# Altium footprint library 123.PcbLib: 55 footprints (part 1 of 4)
Each footprint in its own frame and in the unit in brackets; x right, y up, seen from the top. Pads: shape width x height; smd on the part's side, far side on the other; paste and mask are expansions set on the pad; w line width, h text height; cw(c..) or ccw(c..) is an arc to the next point about the centre after c.
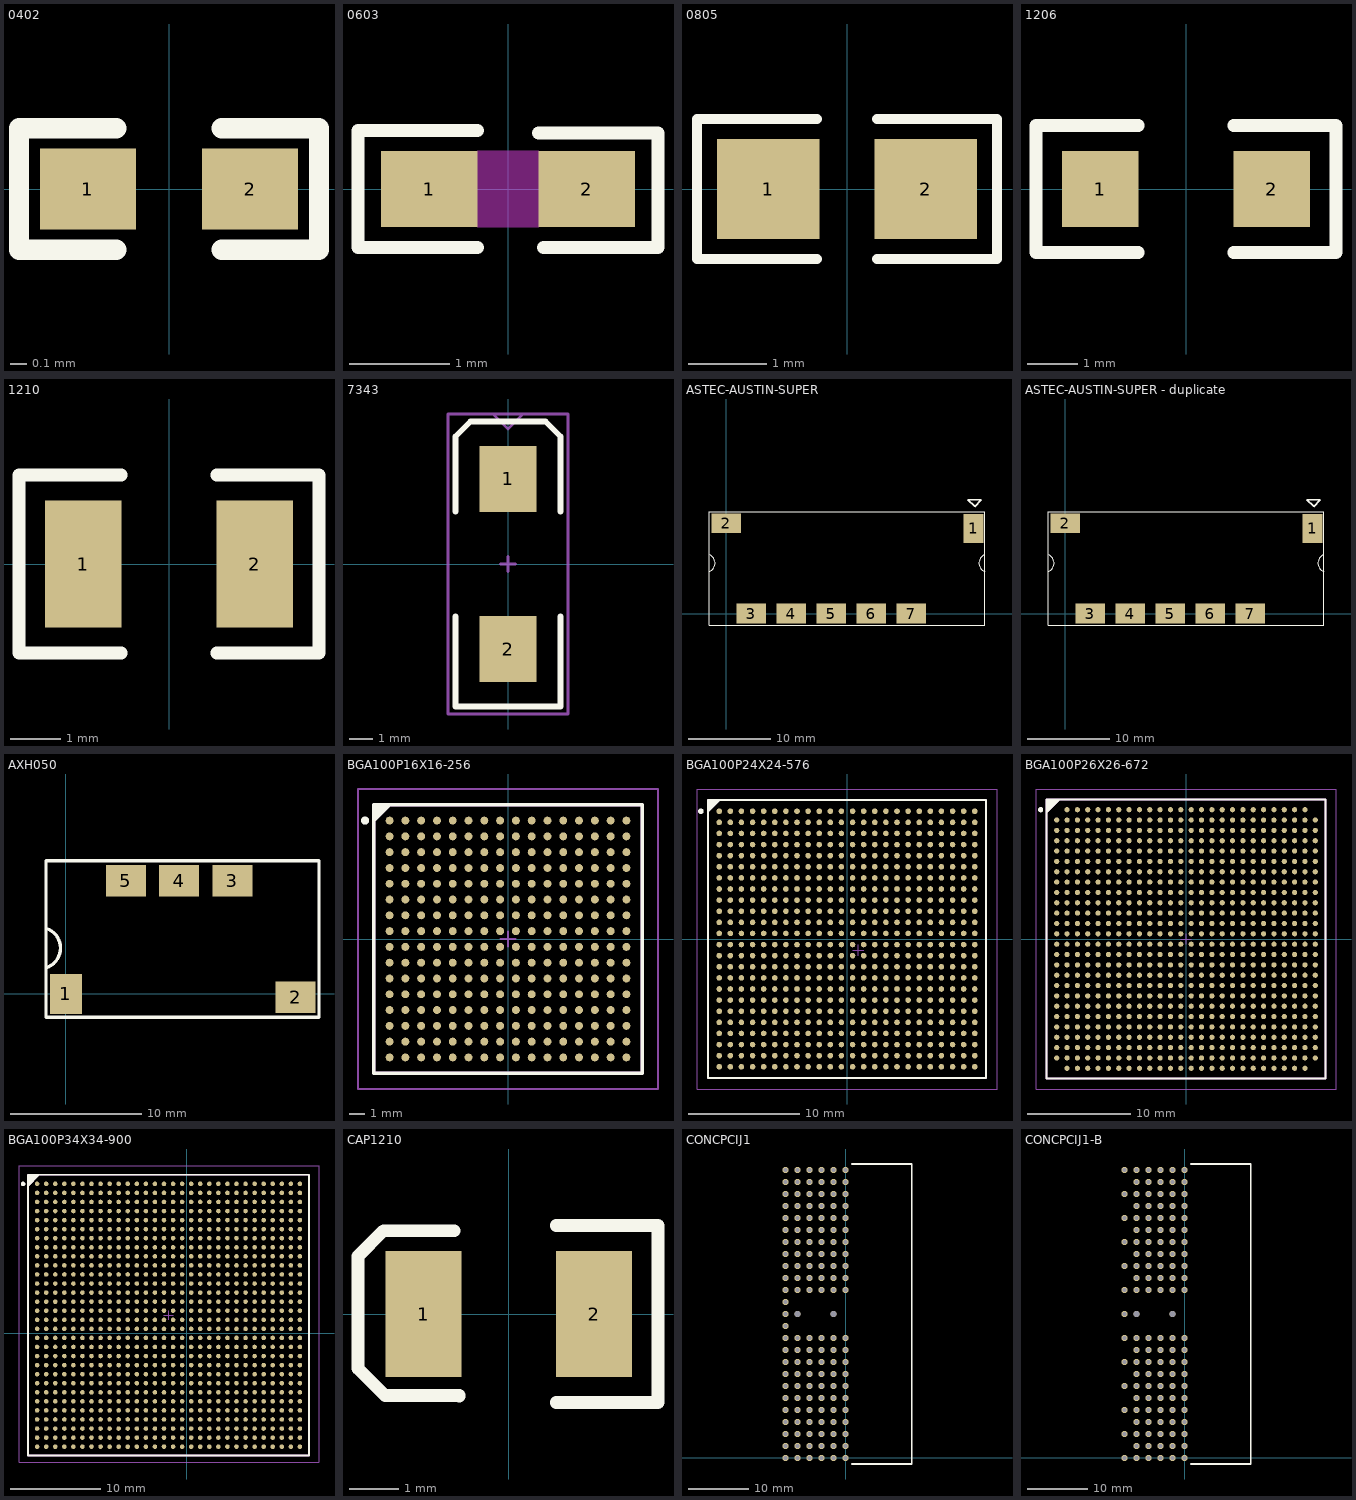
[diagram p0: the footprints below, top view; thin cyan lines are the x and y axes]

## 0402 [mil]
pads (2):
  rect 23.62x20 smd: 1(-20,0) 2(20,0)
Top Overlay:
  lines w5: -13,-15 -37,-15 -37,15 -13,15 ; 13,-15 37,-15 37,15 13,15

## 0603 [mil]
pads (2):
  rect 38x30 smd: 1(-31,0) 2(31,0)
Top Overlay:
  lines w5: -12,-23 -59,-23 -59,23 -12,23 ; 12,22 59,22 59,-23 14,-23
Bottom Overlay:
  lines w5: -5,-14 -5,13 5,13 5,-14 -5,-14
Keep-Out Layer:
  region: -12,15 -12,-15 12,-15 12,15

## 0805 [mm]
pads (2):
  rect 1.3x1.27 smd: 1(-1,0) 2(1,0)
Top Overlay:
  lines w0.127: -0.381,-0.889 -1.905,-0.889 -1.905,0.889 -0.381,0.889 ; 0.381,-0.889 1.905,-0.889 1.905,0.889 0.381,0.889

## 1206 [mil]
pads (2):
  rect 60x60 smd: 1(-67.5,0) 2(67.5,0)
Top Overlay:
  lines w10: -37.5,-50 -118,-50 -118,50 -37.5,50 ; 37.5,-50 118,-50 118,50 37.5,50

## 1210 [mil]
pads (2):
  rect 60x100 smd: 1(-67.5,0) 2(67.5,0)
Top Overlay:
  lines w10: -37.5,-70 -118,-70 -118,70 -37.5,70 ; 37.5,-70 118,-70 118,70 37.5,70

## 7343 [mil]
pads (2):
  rect 95x110 smd: 1(0,142) 2(0,-142)
Top Overlay:
  lines w10: -87.5,-87.5 -87.5,-237.5 87.5,-237.5 87.5,-87.5 ; -87.5,87.5 -87.5,212.5 -62.5,237.5 62.5,237.5 87.5,212.5 87.5,87.5
Mechanical 8:
  lines w5: -25,250 0,225 25,250 ; -12.5,0 12.5,0 ; 0,-12.5 0,12.5 ; -100,-250 -100,250 100,250 100,-250 -100,-250

## ASTEC-AUSTIN-SUPER [mil]
pads (7):
  rect 95x140 smd: 1(1177,405)
  rect 140x95 smd: 2(0,429.92) 3(120,0) 4(310,0) 5(500,0) 6(690,0) 7(880,0)
Top Overlay:
  lines w5: -80.02,280.01 cw(c-95.78,240) -79.95,200.02 ; 1229.95,200.02 cw(c1245.78,240) 1230.02,280.01 ; -80,-55 1230,-55 1230,485 -80,485 -80,-55
  lines w7: 1150,542 1182,510 1182.5,509.5 1215,542 1150,542

## ASTEC-AUSTIN-SUPER - duplicate [mil]
pads (7):
  rect 95x140 smd: 1(1177,405)
  rect 140x95 smd: 2(0,429.92) 3(120,0) 4(310,0) 5(500,0) 6(690,0) 7(880,0)
Top Overlay:
  lines w5: -80.02,280.01 cw(c-95.78,240) -79.95,200.02 ; 1229.95,200.02 cw(c1245.78,240) 1230.02,280.01 ; -80,-55 1230,-55 1230,485 -80,485 -80,-55
  lines w7: 1150,542 1182,510 1182.5,509.5 1215,542 1150,542

## AXH050 [mil]
pads (5):
  rect 95x120 smd: 1(0,0)
  rect 120x95 smd: 2(690,-10) 3(500,340) 4(340,340) 5(180,340)
Top Overlay:
  lines w10: -59.09,78.73 ccw(c-78.74,137.8) -58.99,196.83 ; -60,-70 760,-70 760,400 -60,400 -60,-70

## BGA100P16X16-256 [mm]
pads (256):
  round 0.5 smd: A1(-7.5,7.5) A2(-6.5,7.5) A3(-5.5,7.5) A4(-4.5,7.5) A5(-3.5,7.5) A6(-2.5,7.5) A7(-1.5,7.5) A8(-0.5,7.5) A9(0.5,7.5) A10(1.5,7.5) A11(2.5,7.5) A12(3.5,7.5) A13(4.5,7.5) A14(5.5,7.5) A15(6.5,7.5) A16(7.5,7.5) B1(-7.5,6.5) B2(-6.5,6.5) B3(-5.5,6.5) B4(-4.5,6.5) B5(-3.5,6.5) B6(-2.5,6.5) B7(-1.5,6.5) B8(-0.5,6.5) B9(0.5,6.5) B10(1.5,6.5) B11(2.5,6.5) B12(3.5,6.5) B13(4.5,6.5) B14(5.5,6.5) B15(6.5,6.5) B16(7.5,6.5) C1(-7.5,5.5) C2(-6.5,5.5) C3(-5.5,5.5) C4(-4.5,5.5) C5(-3.5,5.5) C6(-2.5,5.5) C7(-1.5,5.5) C8(-0.5,5.5) C9(0.5,5.5) C10(1.5,5.5) C11(2.5,5.5) C12(3.5,5.5) C13(4.5,5.5) C14(5.5,5.5) C15(6.5,5.5) C16(7.5,5.5) D1(-7.5,4.5) D2(-6.5,4.5) D3(-5.5,4.5) D4(-4.5,4.5) D5(-3.5,4.5) D6(-2.5,4.5) D7(-1.5,4.5) D8(-0.5,4.5) D9(0.5,4.5) D10(1.5,4.5) D11(2.5,4.5) D12(3.5,4.5) D13(4.5,4.5) D14(5.5,4.5) D15(6.5,4.5) D16(7.5,4.5) E1(-7.5,3.5) E2(-6.5,3.5) E3(-5.5,3.5) E4(-4.5,3.5) E5(-3.5,3.5) E6(-2.5,3.5) E7(-1.5,3.5) E8(-0.5,3.5) E9(0.5,3.5) E10(1.5,3.5) E11(2.5,3.5) E12(3.5,3.5) E13(4.5,3.5) E14(5.5,3.5) E15(6.5,3.5) E16(7.5,3.5) F1(-7.5,2.5) F2(-6.5,2.5) F3(-5.5,2.5) F4(-4.5,2.5) F5(-3.5,2.5) F6(-2.5,2.5) F7(-1.5,2.5) F8(-0.5,2.5) F9(0.5,2.5) F10(1.5,2.5) F11(2.5,2.5) F12(3.5,2.5) F13(4.5,2.5) F14(5.5,2.5) F15(6.5,2.5) F16(7.5,2.5) G1(-7.5,1.5) G2(-6.5,1.5) G3(-5.5,1.5) G4(-4.5,1.5) G5(-3.5,1.5) G6(-2.5,1.5) G7(-1.5,1.5) G8(-0.5,1.5) G9(0.5,1.5) G10(1.5,1.5) G11(2.5,1.5) G12(3.5,1.5) G13(4.5,1.5) G14(5.5,1.5) G15(6.5,1.5) G16(7.5,1.5) H1(-7.5,0.5) H2(-6.5,0.5) H3(-5.5,0.5) H4(-4.5,0.5) H5(-3.5,0.5) H6(-2.5,0.5) H7(-1.5,0.5) H8(-0.5,0.5) H9(0.5,0.5) H10(1.5,0.5) H11(2.5,0.5) H12(3.5,0.5) H13(4.5,0.5) H14(5.5,0.5) H15(6.5,0.5) H16(7.5,0.5) J1(-7.5,-0.5) J2(-6.5,-0.5) J3(-5.5,-0.5) J4(-4.5,-0.5) J5(-3.5,-0.5) J6(-2.5,-0.5) J7(-1.5,-0.5) J8(-0.5,-0.5) J9(0.5,-0.5) J10(1.5,-0.5) J11(2.5,-0.5) J12(3.5,-0.5) J13(4.5,-0.5) J14(5.5,-0.5) J15(6.5,-0.5) J16(7.5,-0.5) K1(-7.5,-1.5) K2(-6.5,-1.5) K3(-5.5,-1.5) K4(-4.5,-1.5) K5(-3.5,-1.5) K6(-2.5,-1.5) K7(-1.5,-1.5) K8(-0.5,-1.5) K9(0.5,-1.5) K10(1.5,-1.5) K11(2.5,-1.5) K12(3.5,-1.5) K13(4.5,-1.5) K14(5.5,-1.5) K15(6.5,-1.5) K16(7.5,-1.5) L1(-7.5,-2.5) L2(-6.5,-2.5) L3(-5.5,-2.5) L4(-4.5,-2.5) L5(-3.5,-2.5) L6(-2.5,-2.5) L7(-1.5,-2.5) L8(-0.5,-2.5) L9(0.5,-2.5) L10(1.5,-2.5) L11(2.5,-2.5) L12(3.5,-2.5) L13(4.5,-2.5) L14(5.5,-2.5) L15(6.5,-2.5) L16(7.5,-2.5) M1(-7.5,-3.5) M2(-6.5,-3.5) M3(-5.5,-3.5) M4(-4.5,-3.5) M5(-3.5,-3.5) M6(-2.5,-3.5) M7(-1.5,-3.5) M8(-0.5,-3.5) M9(0.5,-3.5) M10(1.5,-3.5) M11(2.5,-3.5) M12(3.5,-3.5) M13(4.5,-3.5) M14(5.5,-3.5) M15(6.5,-3.5) M16(7.5,-3.5) N1(-7.5,-4.5) N2(-6.5,-4.5) N3(-5.5,-4.5) N4(-4.5,-4.5) N5(-3.5,-4.5) N6(-2.5,-4.5) N7(-1.5,-4.5) N8(-0.5,-4.5) N9(0.5,-4.5) N10(1.5,-4.5) N11(2.5,-4.5) N12(3.5,-4.5) N13(4.5,-4.5) N14(5.5,-4.5) N15(6.5,-4.5) N16(7.5,-4.5) P1(-7.5,-5.5) P2(-6.5,-5.5) P3(-5.5,-5.5) P4(-4.5,-5.5) P5(-3.5,-5.5) P6(-2.5,-5.5) P7(-1.5,-5.5) P8(-0.5,-5.5) P9(0.5,-5.5) P10(1.5,-5.5) P11(2.5,-5.5) P12(3.5,-5.5) P13(4.5,-5.5) P14(5.5,-5.5) P15(6.5,-5.5) P16(7.5,-5.5) R1(-7.5,-6.5) R2(-6.5,-6.5) R3(-5.5,-6.5) R4(-4.5,-6.5) R5(-3.5,-6.5) R6(-2.5,-6.5) R7(-1.5,-6.5) R8(-0.5,-6.5) R9(0.5,-6.5) R10(1.5,-6.5) R11(2.5,-6.5) R12(3.5,-6.5) R13(4.5,-6.5) R14(5.5,-6.5) R15(6.5,-6.5) R16(7.5,-6.5) T1(-7.5,-7.5) T2(-6.5,-7.5) T3(-5.5,-7.5) T4(-4.5,-7.5) T5(-3.5,-7.5) T6(-2.5,-7.5) T7(-1.5,-7.5) T8(-0.5,-7.5) T9(0.5,-7.5) T10(1.5,-7.5) T11(2.5,-7.5) T12(3.5,-7.5) T13(4.5,-7.5) T14(5.5,-7.5) T15(6.5,-7.5) T16(7.5,-7.5)
Top Overlay:
  circle w0.25: c-9.05,7.5 r0.125
  lines w0.2: -8.5,7.5 -7.5,8.5 ; -8.5,7.7 -7.7,8.5 ; -8.5,7.9 -7.9,8.5 ; -8.5,8.1 -8.1,8.5 ; -8.5,8.3 -8.3,8.5 ; -8.5,-8.5 8.5,-8.5 8.5,8.5 -8.5,8.5 -8.5,-8.5
Mechanical 1:
  lines w0.2: -8.5,7.5 -7.5,8.5 ; -8.5,7.7 -7.7,8.5 ; -8.5,7.9 -7.9,8.5 ; -8.5,8.1 -8.1,8.5 ; -8.5,8.3 -8.3,8.5 ; -8.5,-8.5 -8.5,8.5 8.5,8.5 8.5,-8.5 -8.5,-8.5
  text "U137" at -1.616,-0.5 h1
Mechanical 8:
  lines w0.1: -0.5,0 0.5,0 ; 0,-0.5 0,0.5 ; -9.5,-9.5 -9.5,9.5 9.5,9.5 9.5,-9.5 -9.5,-9.5

## BGA100P24X24-576 [mm]
pads (576):
  round 0.5 smd: A1(-11.5,11.5) A2(-10.5,11.5) A3(-9.5,11.5) A4(-8.5,11.5) A5(-7.5,11.5) A6(-6.5,11.5) A7(-5.5,11.5) A8(-4.5,11.5) A9(-3.5,11.5) A10(-2.5,11.5) A11(-1.5,11.5) A12(-0.5,11.5) A13(0.5,11.5) A14(1.5,11.5) A15(2.5,11.5) A16(3.5,11.5) A17(4.5,11.5) A18(5.5,11.5) A19(6.5,11.5) A20(7.5,11.5) A21(8.5,11.5) A22(9.5,11.5) A23(10.5,11.5) A24(11.5,11.5) AA1(-11.5,-8.5) AA2(-10.5,-8.5) AA3(-9.5,-8.5) AA4(-8.5,-8.5) AA5(-7.5,-8.5) AA6(-6.5,-8.5) AA7(-5.5,-8.5) AA8(-4.5,-8.5) AA9(-3.5,-8.5) AA10(-2.5,-8.5) AA11(-1.5,-8.5) AA12(-0.5,-8.5) AA13(0.5,-8.5) AA14(1.5,-8.5) AA15(2.5,-8.5) AA16(3.5,-8.5) AA17(4.5,-8.5) AA18(5.5,-8.5) AA19(6.5,-8.5) AA20(7.5,-8.5) AA21(8.5,-8.5) AA22(9.5,-8.5) AA23(10.5,-8.5) AA24(11.5,-8.5) AB1(-11.5,-9.5) AB2(-10.5,-9.5) AB3(-9.5,-9.5) AB4(-8.5,-9.5) AB5(-7.5,-9.5) AB6(-6.5,-9.5) AB7(-5.5,-9.5) AB8(-4.5,-9.5) AB9(-3.5,-9.5) AB10(-2.5,-9.5) AB11(-1.5,-9.5) AB12(-0.5,-9.5) AB13(0.5,-9.5) AB14(1.5,-9.5) AB15(2.5,-9.5) AB16(3.5,-9.5) AB17(4.5,-9.5) AB18(5.5,-9.5) AB19(6.5,-9.5) AB20(7.5,-9.5) AB21(8.5,-9.5) AB22(9.5,-9.5) AB23(10.5,-9.5) AB24(11.5,-9.5) AC1(-11.5,-10.5) AC2(-10.5,-10.5) AC3(-9.5,-10.5) AC4(-8.5,-10.5) AC5(-7.5,-10.5) AC6(-6.5,-10.5) AC7(-5.5,-10.5) AC8(-4.5,-10.5) AC9(-3.5,-10.5) AC10(-2.5,-10.5) AC11(-1.5,-10.5) AC12(-0.5,-10.5) AC13(0.5,-10.5) AC14(1.5,-10.5) AC15(2.5,-10.5) AC16(3.5,-10.5) AC17(4.5,-10.5) AC18(5.5,-10.5) AC19(6.5,-10.5) AC20(7.5,-10.5) AC21(8.5,-10.5) AC22(9.5,-10.5) AC23(10.5,-10.5) AC24(11.5,-10.5) AD1(-11.5,-11.5) AD2(-10.5,-11.5) AD3(-9.5,-11.5) AD4(-8.5,-11.5) AD5(-7.5,-11.5) AD6(-6.5,-11.5) AD7(-5.5,-11.5) AD8(-4.5,-11.5) AD9(-3.5,-11.5) AD10(-2.5,-11.5) AD11(-1.5,-11.5) AD12(-0.5,-11.5) AD13(0.5,-11.5) AD14(1.5,-11.5) AD15(2.5,-11.5) AD16(3.5,-11.5) AD17(4.5,-11.5) AD18(5.5,-11.5) AD19(6.5,-11.5) AD20(7.5,-11.5) AD21(8.5,-11.5) AD22(9.5,-11.5) AD23(10.5,-11.5) AD24(11.5,-11.5) B1(-11.5,10.5) B2(-10.5,10.5) B3(-9.5,10.5) B4(-8.5,10.5) B5(-7.5,10.5) B6(-6.5,10.5) B7(-5.5,10.5) B8(-4.5,10.5) B9(-3.5,10.5) B10(-2.5,10.5) B11(-1.5,10.5) B12(-0.5,10.5) B13(0.5,10.5) B14(1.5,10.5) B15(2.5,10.5) B16(3.5,10.5) B17(4.5,10.5) B18(5.5,10.5) B19(6.5,10.5) B20(7.5,10.5) B21(8.5,10.5) B22(9.5,10.5) B23(10.5,10.5) B24(11.5,10.5) C1(-11.5,9.5) C2(-10.5,9.5) C3(-9.5,9.5) C4(-8.5,9.5) C5(-7.5,9.5) C6(-6.5,9.5) C7(-5.5,9.5) C8(-4.5,9.5) C9(-3.5,9.5) C10(-2.5,9.5) C11(-1.5,9.5) C12(-0.5,9.5) C13(0.5,9.5) C14(1.5,9.5) C15(2.5,9.5) C16(3.5,9.5) C17(4.5,9.5) C18(5.5,9.5) C19(6.5,9.5) C20(7.5,9.5) C21(8.5,9.5) C22(9.5,9.5) C23(10.5,9.5) C24(11.5,9.5) D1(-11.5,8.5) D2(-10.5,8.5) D3(-9.5,8.5) D4(-8.5,8.5) D5(-7.5,8.5) D6(-6.5,8.5) D7(-5.5,8.5) D8(-4.5,8.5) D9(-3.5,8.5) D10(-2.5,8.5) D11(-1.5,8.5) D12(-0.5,8.5) D13(0.5,8.5) D14(1.5,8.5) D15(2.5,8.5) D16(3.5,8.5) D17(4.5,8.5) D18(5.5,8.5) D19(6.5,8.5) D20(7.5,8.5) D21(8.5,8.5) D22(9.5,8.5) D23(10.5,8.5) D24(11.5,8.5) E1(-11.5,7.5) E2(-10.5,7.5) E3(-9.5,7.5) E4(-8.5,7.5) E5(-7.5,7.5) E6(-6.5,7.5) E7(-5.5,7.5) E8(-4.5,7.5) E9(-3.5,7.5) E10(-2.5,7.5) E11(-1.5,7.5) E12(-0.5,7.5) E13(0.5,7.5) E14(1.5,7.5) E15(2.5,7.5) E16(3.5,7.5) E17(4.5,7.5) E18(5.5,7.5) E19(6.5,7.5) E20(7.5,7.5) E21(8.5,7.5) E22(9.5,7.5) E23(10.5,7.5) E24(11.5,7.5) F1(-11.5,6.5) F2(-10.5,6.5) F3(-9.5,6.5) F4(-8.5,6.5) F5(-7.5,6.5) F6(-6.5,6.5) F7(-5.5,6.5) F8(-4.5,6.5) F9(-3.5,6.5) F10(-2.5,6.5) F11(-1.5,6.5) F12(-0.5,6.5) F13(0.5,6.5) F14(1.5,6.5) F15(2.5,6.5) F16(3.5,6.5) F17(4.5,6.5) F18(5.5,6.5) F19(6.5,6.5) F20(7.5,6.5) F21(8.5,6.5) F22(9.5,6.5) F23(10.5,6.5) F24(11.5,6.5) G1(-11.5,5.5) G2(-10.5,5.5) G3(-9.5,5.5) G4(-8.5,5.5) G5(-7.5,5.5) G6(-6.5,5.5) G7(-5.5,5.5) G8(-4.5,5.5) G9(-3.5,5.5) G10(-2.5,5.5) G11(-1.5,5.5) G12(-0.5,5.5) G13(0.5,5.5) G14(1.5,5.5) G15(2.5,5.5) G16(3.5,5.5) G17(4.5,5.5) G18(5.5,5.5) G19(6.5,5.5) G20(7.5,5.5) G21(8.5,5.5) G22(9.5,5.5) G23(10.5,5.5) G24(11.5,5.5) H1(-11.5,4.5) H2(-10.5,4.5) H3(-9.5,4.5) H4(-8.5,4.5) H5(-7.5,4.5) H6(-6.5,4.5) H7(-5.5,4.5) H8(-4.5,4.5) H9(-3.5,4.5) H10(-2.5,4.5) H11(-1.5,4.5) H12(-0.5,4.5) H13(0.5,4.5) H14(1.5,4.5) H15(2.5,4.5) H16(3.5,4.5) H17(4.5,4.5) H18(5.5,4.5) H19(6.5,4.5) H20(7.5,4.5) H21(8.5,4.5) H22(9.5,4.5) H23(10.5,4.5) H24(11.5,4.5) J1(-11.5,3.5) J2(-10.5,3.5) J3(-9.5,3.5) J4(-8.5,3.5) J5(-7.5,3.5) J6(-6.5,3.5) J7(-5.5,3.5) J8(-4.5,3.5) J9(-3.5,3.5) J10(-2.5,3.5) J11(-1.5,3.5) J12(-0.5,3.5) J13(0.5,3.5) J14(1.5,3.5) J15(2.5,3.5) J16(3.5,3.5) J17(4.5,3.5) J18(5.5,3.5) J19(6.5,3.5) J20(7.5,3.5) J21(8.5,3.5) J22(9.5,3.5) J23(10.5,3.5) J24(11.5,3.5) K1(-11.5,2.5) K2(-10.5,2.5) K3(-9.5,2.5) K4(-8.5,2.5) K5(-7.5,2.5) K6(-6.5,2.5) K7(-5.5,2.5) K8(-4.5,2.5) K9(-3.5,2.5) K10(-2.5,2.5) K11(-1.5,2.5) K12(-0.5,2.5) K13(0.5,2.5) K14(1.5,2.5) K15(2.5,2.5) K16(3.5,2.5) K17(4.5,2.5) K18(5.5,2.5) K19(6.5,2.5) K20(7.5,2.5) K21(8.5,2.5) K22(9.5,2.5) K23(10.5,2.5) K24(11.5,2.5) L1(-11.5,1.5) L2(-10.5,1.5) L3(-9.5,1.5) L4(-8.5,1.5) L5(-7.5,1.5) L6(-6.5,1.5) L7(-5.5,1.5) L8(-4.5,1.5) L9(-3.5,1.5) L10(-2.5,1.5) L11(-1.5,1.5) L12(-0.5,1.5) L13(0.5,1.5) L14(1.5,1.5) L15(2.5,1.5) L16(3.5,1.5) L17(4.5,1.5) L18(5.5,1.5) L19(6.5,1.5) L20(7.5,1.5) L21(8.5,1.5) L22(9.5,1.5) L23(10.5,1.5) L24(11.5,1.5) M1(-11.5,0.5) M2(-10.5,0.5) M3(-9.5,0.5) M4(-8.5,0.5) M5(-7.5,0.5) M6(-6.5,0.5) M7(-5.5,0.5) M8(-4.5,0.5) M9(-3.5,0.5) M10(-2.5,0.5) M11(-1.5,0.5) M12(-0.5,0.5) M13(0.5,0.5) M14(1.5,0.5) M15(2.5,0.5) M16(3.5,0.5) M17(4.5,0.5) M18(5.5,0.5) M19(6.5,0.5) M20(7.5,0.5) M21(8.5,0.5) M22(9.5,0.5) M23(10.5,0.5) M24(11.5,0.5) N1(-11.5,-0.5) N2(-10.5,-0.5) N3(-9.5,-0.5) N4(-8.5,-0.5) N5(-7.5,-0.5) N6(-6.5,-0.5) N7(-5.5,-0.5) N8(-4.5,-0.5) N9(-3.5,-0.5) N10(-2.5,-0.5) N11(-1.5,-0.5) N12(-0.5,-0.5) N13(0.5,-0.5) N14(1.5,-0.5) N15(2.5,-0.5) N16(3.5,-0.5) N17(4.5,-0.5) N18(5.5,-0.5) N19(6.5,-0.5) N20(7.5,-0.5) N21(8.5,-0.5) N22(9.5,-0.5) N23(10.5,-0.5) N24(11.5,-0.5) P1(-11.5,-1.5) P2(-10.5,-1.5) P3(-9.5,-1.5) P4(-8.5,-1.5) P5(-7.5,-1.5) P6(-6.5,-1.5) P7(-5.5,-1.5) P8(-4.5,-1.5) P9(-3.5,-1.5) P10(-2.5,-1.5) P11(-1.5,-1.5) P12(-0.5,-1.5) P13(0.5,-1.5) P14(1.5,-1.5) P15(2.5,-1.5) P16(3.5,-1.5) P17(4.5,-1.5) P18(5.5,-1.5) P19(6.5,-1.5) P20(7.5,-1.5) P21(8.5,-1.5) P22(9.5,-1.5) P23(10.5,-1.5) P24(11.5,-1.5) R1(-11.5,-2.5) R2(-10.5,-2.5) R3(-9.5,-2.5) R4(-8.5,-2.5) R5(-7.5,-2.5) R6(-6.5,-2.5) R7(-5.5,-2.5) R8(-4.5,-2.5) R9(-3.5,-2.5) R10(-2.5,-2.5) R11(-1.5,-2.5) R12(-0.5,-2.5) R13(0.5,-2.5) R14(1.5,-2.5) R15(2.5,-2.5) R16(3.5,-2.5) R17(4.5,-2.5) R18(5.5,-2.5) R19(6.5,-2.5) R20(7.5,-2.5) R21(8.5,-2.5) R22(9.5,-2.5) R23(10.5,-2.5) R24(11.5,-2.5) T1(-11.5,-3.5) T2(-10.5,-3.5) T3(-9.5,-3.5) T4(-8.5,-3.5) T5(-7.5,-3.5) T6(-6.5,-3.5) T7(-5.5,-3.5) T8(-4.5,-3.5) T9(-3.5,-3.5) T10(-2.5,-3.5) T11(-1.5,-3.5) T12(-0.5,-3.5) T13(0.5,-3.5) T14(1.5,-3.5) T15(2.5,-3.5) T16(3.5,-3.5) T17(4.5,-3.5) T18(5.5,-3.5) T19(6.5,-3.5) T20(7.5,-3.5) T21(8.5,-3.5) T22(9.5,-3.5) T23(10.5,-3.5) T24(11.5,-3.5) U1(-11.5,-4.5) U2(-10.5,-4.5) U3(-9.5,-4.5) U4(-8.5,-4.5) U5(-7.5,-4.5) U6(-6.5,-4.5) U7(-5.5,-4.5) U8(-4.5,-4.5) U9(-3.5,-4.5) U10(-2.5,-4.5) U11(-1.5,-4.5) U12(-0.5,-4.5) U13(0.5,-4.5) U14(1.5,-4.5) U15(2.5,-4.5) U16(3.5,-4.5) U17(4.5,-4.5) U18(5.5,-4.5) U19(6.5,-4.5) U20(7.5,-4.5) U21(8.5,-4.5) U22(9.5,-4.5) U23(10.5,-4.5) U24(11.5,-4.5) V1(-11.5,-5.5) V2(-10.5,-5.5) V3(-9.5,-5.5) V4(-8.5,-5.5) V5(-7.5,-5.5) V6(-6.5,-5.5) V7(-5.5,-5.5) V8(-4.5,-5.5) V9(-3.5,-5.5) V10(-2.5,-5.5) V11(-1.5,-5.5) V12(-0.5,-5.5) V13(0.5,-5.5) V14(1.5,-5.5) V15(2.5,-5.5) V16(3.5,-5.5) V17(4.5,-5.5) V18(5.5,-5.5) V19(6.5,-5.5) V20(7.5,-5.5) V21(8.5,-5.5) V22(9.5,-5.5) V23(10.5,-5.5) V24(11.5,-5.5) W1(-11.5,-6.5) W2(-10.5,-6.5) W3(-9.5,-6.5) W4(-8.5,-6.5) W5(-7.5,-6.5) W6(-6.5,-6.5) W7(-5.5,-6.5) W8(-4.5,-6.5) W9(-3.5,-6.5) W10(-2.5,-6.5) W11(-1.5,-6.5) W12(-0.5,-6.5) W13(0.5,-6.5) W14(1.5,-6.5) W15(2.5,-6.5) W16(3.5,-6.5) W17(4.5,-6.5) W18(5.5,-6.5) W19(6.5,-6.5) W20(7.5,-6.5) W21(8.5,-6.5) W22(9.5,-6.5) W23(10.5,-6.5) W24(11.5,-6.5) Y1(-11.5,-7.5) Y2(-10.5,-7.5) Y3(-9.5,-7.5) Y4(-8.5,-7.5) Y5(-7.5,-7.5) Y6(-6.5,-7.5) Y7(-5.5,-7.5) Y8(-4.5,-7.5) Y9(-3.5,-7.5) Y10(-2.5,-7.5) Y11(-1.5,-7.5) Y12(-0.5,-7.5) Y13(0.5,-7.5) Y14(1.5,-7.5) Y15(2.5,-7.5) Y16(3.5,-7.5) Y17(4.5,-7.5) Y18(5.5,-7.5) Y19(6.5,-7.5) Y20(7.5,-7.5) Y21(8.5,-7.5) Y22(9.5,-7.5) Y23(10.5,-7.5) Y24(11.5,-7.5)
Top Overlay:
  circle w0.25: c-13.15,11.5 r0.125
  lines w0.2: -12.5,11.5 -11.5,12.5 ; -12.5,11.7 -11.7,12.5 ; -12.5,11.9 -11.9,12.5 ; -12.5,12.1 -12.1,12.5 ; -12.5,12.3 -12.3,12.5 ; -12.5,-12.5 12.5,-12.5 12.5,12.5 -12.5,12.5 -12.5,-12.5
Mechanical 1:
  lines w0.2: -12.5,11.5 -11.5,12.5 ; -12.5,11.7 -11.7,12.5 ; -12.5,11.9 -11.9,12.5 ; -12.5,12.1 -12.1,12.5 ; -12.5,12.3 -12.3,12.5 ; -12.5,-12.5 12.5,-12.5 12.5,12.5 -12.5,12.5 -12.5,-12.5
  text "U12" at -0.171,-1.5 h1
Mechanical 8:
  lines w0.1: 0.5,-1 1.5,-1 ; 1,-1.5 1,-0.5 ; -13.5,-13.5 13.5,-13.5 13.5,13.5 -13.5,13.5 -13.5,-13.5
Mechanical 9:
  lines w0.001: -12.5,-12.5 12.5,-12.5 12.5,12.5 -12.5,12.5 -12.5,-12.5

## BGA100P26X26-672 [mm]
pads (672):
  round 0.5 smd: A2(-11.5,12.5) A3(-10.5,12.5) A4(-9.5,12.5) A5(-8.5,12.5) A6(-7.5,12.5) A7(-6.5,12.5) A8(-5.5,12.5) A9(-4.5,12.5) A10(-3.5,12.5) A11(-2.5,12.5) A12(-1.5,12.5) A13(-0.5,12.5) A14(0.5,12.5) A15(1.5,12.5) A16(2.5,12.5) A17(3.5,12.5) A18(4.5,12.5) A19(5.5,12.5) A20(6.5,12.5) A21(7.5,12.5) A22(8.5,12.5) A23(9.5,12.5) A24(10.5,12.5) A25(11.5,12.5) AA1(-12.5,-7.5) AA2(-11.5,-7.5) AA3(-10.5,-7.5) AA4(-9.5,-7.5) AA5(-8.5,-7.5) AA6(-7.5,-7.5) AA7(-6.5,-7.5) AA8(-5.5,-7.5) AA9(-4.5,-7.5) AA10(-3.5,-7.5) AA11(-2.5,-7.5) AA12(-1.5,-7.5) AA13(-0.5,-7.5) AA14(0.5,-7.5) AA15(1.5,-7.5) AA16(2.5,-7.5) AA17(3.5,-7.5) AA18(4.5,-7.5) AA19(5.5,-7.5) AA20(6.5,-7.5) AA21(7.5,-7.5) AA22(8.5,-7.5) AA23(9.5,-7.5) AA24(10.5,-7.5) AA25(11.5,-7.5) AA26(12.5,-7.5) AB1(-12.5,-8.5) AB2(-11.5,-8.5) AB3(-10.5,-8.5) AB4(-9.5,-8.5) AB5(-8.5,-8.5) AB6(-7.5,-8.5) AB7(-6.5,-8.5) AB8(-5.5,-8.5) AB9(-4.5,-8.5) AB10(-3.5,-8.5) AB11(-2.5,-8.5) AB12(-1.5,-8.5) AB13(-0.5,-8.5) AB14(0.5,-8.5) AB15(1.5,-8.5) AB16(2.5,-8.5) AB17(3.5,-8.5) AB18(4.5,-8.5) AB19(5.5,-8.5) AB20(6.5,-8.5) AB21(7.5,-8.5) AB22(8.5,-8.5) AB23(9.5,-8.5) AB24(10.5,-8.5) AB25(11.5,-8.5) AB26(12.5,-8.5) AC1(-12.5,-9.5) AC2(-11.5,-9.5) AC3(-10.5,-9.5) AC4(-9.5,-9.5) AC5(-8.5,-9.5) AC6(-7.5,-9.5) AC7(-6.5,-9.5) AC8(-5.5,-9.5) AC9(-4.5,-9.5) AC10(-3.5,-9.5) AC11(-2.5,-9.5) AC12(-1.5,-9.5) AC13(-0.5,-9.5) AC14(0.5,-9.5) AC15(1.5,-9.5) AC16(2.5,-9.5) AC17(3.5,-9.5) AC18(4.5,-9.5) AC19(5.5,-9.5) AC20(6.5,-9.5) AC21(7.5,-9.5) AC22(8.5,-9.5) AC23(9.5,-9.5) AC24(10.5,-9.5) AC25(11.5,-9.5) AC26(12.5,-9.5) AD1(-12.5,-10.5) AD2(-11.5,-10.5) AD3(-10.5,-10.5) AD4(-9.5,-10.5) AD5(-8.5,-10.5) AD6(-7.5,-10.5) AD7(-6.5,-10.5) AD8(-5.5,-10.5) AD9(-4.5,-10.5) AD10(-3.5,-10.5) AD11(-2.5,-10.5) AD12(-1.5,-10.5) AD13(-0.5,-10.5) AD14(0.5,-10.5) AD15(1.5,-10.5) AD16(2.5,-10.5) AD17(3.5,-10.5) AD18(4.5,-10.5) AD19(5.5,-10.5) AD20(6.5,-10.5) AD21(7.5,-10.5) AD22(8.5,-10.5) AD23(9.5,-10.5) AD24(10.5,-10.5) AD25(11.5,-10.5) AD26(12.5,-10.5) AE1(-12.5,-11.5) AE2(-11.5,-11.5) AE3(-10.5,-11.5) AE4(-9.5,-11.5) AE5(-8.5,-11.5) AE6(-7.5,-11.5) AE7(-6.5,-11.5) AE8(-5.5,-11.5) AE9(-4.5,-11.5) AE10(-3.5,-11.5) AE11(-2.5,-11.5) AE12(-1.5,-11.5) AE13(-0.5,-11.5) AE14(0.5,-11.5) AE15(1.5,-11.5) AE16(2.5,-11.5) AE17(3.5,-11.5) AE18(4.5,-11.5) AE19(5.5,-11.5) AE20(6.5,-11.5) AE21(7.5,-11.5) AE22(8.5,-11.5) AE23(9.5,-11.5) AE24(10.5,-11.5) AE25(11.5,-11.5) AE26(12.5,-11.5) AF2(-11.5,-12.5) AF3(-10.5,-12.5) AF4(-9.5,-12.5) AF5(-8.5,-12.5) AF6(-7.5,-12.5) AF7(-6.5,-12.5) AF8(-5.5,-12.5) AF9(-4.5,-12.5) AF10(-3.5,-12.5) AF11(-2.5,-12.5) AF12(-1.5,-12.5) AF13(-0.5,-12.5) AF14(0.5,-12.5) AF15(1.5,-12.5) AF16(2.5,-12.5) AF17(3.5,-12.5) AF18(4.5,-12.5) AF19(5.5,-12.5) AF20(6.5,-12.5) AF21(7.5,-12.5) AF22(8.5,-12.5) AF23(9.5,-12.5) AF24(10.5,-12.5) AF25(11.5,-12.5) B1(-12.5,11.5) B2(-11.5,11.5) B3(-10.5,11.5) B4(-9.5,11.5) B5(-8.5,11.5) B6(-7.5,11.5) B7(-6.5,11.5) B8(-5.5,11.5) B9(-4.5,11.5) B10(-3.5,11.5) B11(-2.5,11.5) B12(-1.5,11.5) B13(-0.5,11.5) B14(0.5,11.5) B15(1.5,11.5) B16(2.5,11.5) B17(3.5,11.5) B18(4.5,11.5) B19(5.5,11.5) B20(6.5,11.5) B21(7.5,11.5) B22(8.5,11.5) B23(9.5,11.5) B24(10.5,11.5) B25(11.5,11.5) B26(12.5,11.5) C1(-12.5,10.5) C2(-11.5,10.5) C3(-10.5,10.5) C4(-9.5,10.5) C5(-8.5,10.5) C6(-7.5,10.5) C7(-6.5,10.5) C8(-5.5,10.5) C9(-4.5,10.5) C10(-3.5,10.5) C11(-2.5,10.5) C12(-1.5,10.5) C13(-0.5,10.5) C14(0.5,10.5) C15(1.5,10.5) C16(2.5,10.5) C17(3.5,10.5) C18(4.5,10.5) C19(5.5,10.5) C20(6.5,10.5) C21(7.5,10.5) C22(8.5,10.5) C23(9.5,10.5) C24(10.5,10.5) C25(11.5,10.5) C26(12.5,10.5) D1(-12.5,9.5) D2(-11.5,9.5) D3(-10.5,9.5) D4(-9.5,9.5) D5(-8.5,9.5) D6(-7.5,9.5) D7(-6.5,9.5) D8(-5.5,9.5) D9(-4.5,9.5) D10(-3.5,9.5) D11(-2.5,9.5) D12(-1.5,9.5) D13(-0.5,9.5) D14(0.5,9.5) D15(1.5,9.5) D16(2.5,9.5) D17(3.5,9.5) D18(4.5,9.5) D19(5.5,9.5) D20(6.5,9.5) D21(7.5,9.5) D22(8.5,9.5) D23(9.5,9.5) D24(10.5,9.5) D25(11.5,9.5) D26(12.5,9.5) E1(-12.5,8.5) E2(-11.5,8.5) E3(-10.5,8.5) E4(-9.5,8.5) E5(-8.5,8.5) E6(-7.5,8.5) E7(-6.5,8.5) E8(-5.5,8.5) E9(-4.5,8.5) E10(-3.5,8.5) E11(-2.5,8.5) E12(-1.5,8.5) E13(-0.5,8.5) E14(0.5,8.5) E15(1.5,8.5) E16(2.5,8.5) E17(3.5,8.5) E18(4.5,8.5) E19(5.5,8.5) E20(6.5,8.5) E21(7.5,8.5) E22(8.5,8.5) E23(9.5,8.5) E24(10.5,8.5) E25(11.5,8.5) E26(12.5,8.5) F1(-12.5,7.5) F2(-11.5,7.5) F3(-10.5,7.5) F4(-9.5,7.5) F5(-8.5,7.5) F6(-7.5,7.5) F7(-6.5,7.5) F8(-5.5,7.5) F9(-4.5,7.5) F10(-3.5,7.5) F11(-2.5,7.5) F12(-1.5,7.5) F13(-0.5,7.5) F14(0.5,7.5) F15(1.5,7.5) F16(2.5,7.5) F17(3.5,7.5) F18(4.5,7.5) F19(5.5,7.5) F20(6.5,7.5) F21(7.5,7.5) F22(8.5,7.5) F23(9.5,7.5) F24(10.5,7.5) F25(11.5,7.5) F26(12.5,7.5) G1(-12.5,6.5) G2(-11.5,6.5) G3(-10.5,6.5) G4(-9.5,6.5) G5(-8.5,6.5) G6(-7.5,6.5) G7(-6.5,6.5) G8(-5.5,6.5) G9(-4.5,6.5) G10(-3.5,6.5) G11(-2.5,6.5) G12(-1.5,6.5) G13(-0.5,6.5) G14(0.5,6.5) G15(1.5,6.5) G16(2.5,6.5) G17(3.5,6.5) G18(4.5,6.5) G19(5.5,6.5) G20(6.5,6.5) G21(7.5,6.5) G22(8.5,6.5) G23(9.5,6.5) G24(10.5,6.5) G25(11.5,6.5) G26(12.5,6.5) H1(-12.5,5.5) H2(-11.5,5.5) H3(-10.5,5.5) H4(-9.5,5.5) H5(-8.5,5.5) H6(-7.5,5.5) H7(-6.5,5.5) H8(-5.5,5.5) H9(-4.5,5.5) H10(-3.5,5.5) H11(-2.5,5.5) H12(-1.5,5.5) H13(-0.5,5.5) H14(0.5,5.5) H15(1.5,5.5) H16(2.5,5.5) H17(3.5,5.5) H18(4.5,5.5) H19(5.5,5.5) H20(6.5,5.5) H21(7.5,5.5) H22(8.5,5.5) H23(9.5,5.5) H24(10.5,5.5) H25(11.5,5.5) H26(12.5,5.5) J1(-12.5,4.5) J2(-11.5,4.5) J3(-10.5,4.5) J4(-9.5,4.5) J5(-8.5,4.5) J6(-7.5,4.5) J7(-6.5,4.5) J8(-5.5,4.5) J9(-4.5,4.5) J10(-3.5,4.5) J11(-2.5,4.5) J12(-1.5,4.5) J13(-0.5,4.5) J14(0.5,4.5) J15(1.5,4.5) J16(2.5,4.5) J17(3.5,4.5) J18(4.5,4.5) J19(5.5,4.5) J20(6.5,4.5) J21(7.5,4.5) J22(8.5,4.5) J23(9.5,4.5) J24(10.5,4.5) J25(11.5,4.5) J26(12.5,4.5) K1(-12.5,3.5) K2(-11.5,3.5) K3(-10.5,3.5) K4(-9.5,3.5) K5(-8.5,3.5) K6(-7.5,3.5) K7(-6.5,3.5) K8(-5.5,3.5) K9(-4.5,3.5) K10(-3.5,3.5) K11(-2.5,3.5) K12(-1.5,3.5) K13(-0.5,3.5) K14(0.5,3.5) K15(1.5,3.5) K16(2.5,3.5) K17(3.5,3.5) K18(4.5,3.5) K19(5.5,3.5) K20(6.5,3.5) K21(7.5,3.5) K22(8.5,3.5) K23(9.5,3.5) K24(10.5,3.5) K25(11.5,3.5) K26(12.5,3.5) L1(-12.5,2.5) L2(-11.5,2.5) L3(-10.5,2.5) L4(-9.5,2.5) L5(-8.5,2.5) L6(-7.5,2.5) L7(-6.5,2.5) L8(-5.5,2.5) L9(-4.5,2.5) L10(-3.5,2.5) L11(-2.5,2.5) L12(-1.5,2.5) L13(-0.5,2.5) L14(0.5,2.5) L15(1.5,2.5) L16(2.5,2.5) L17(3.5,2.5) L18(4.5,2.5) L19(5.5,2.5) L20(6.5,2.5) L21(7.5,2.5) L22(8.5,2.5) L23(9.5,2.5) L24(10.5,2.5) L25(11.5,2.5) L26(12.5,2.5) M1(-12.5,1.5) M2(-11.5,1.5) M3(-10.5,1.5) M4(-9.5,1.5) M5(-8.5,1.5) M6(-7.5,1.5) M7(-6.5,1.5) M8(-5.5,1.5) M9(-4.5,1.5) M10(-3.5,1.5) M11(-2.5,1.5) M12(-1.5,1.5) M13(-0.5,1.5) M14(0.5,1.5) M15(1.5,1.5) M16(2.5,1.5) M17(3.5,1.5) M18(4.5,1.5) M19(5.5,1.5) M20(6.5,1.5) M21(7.5,1.5) M22(8.5,1.5) M23(9.5,1.5) M24(10.5,1.5) M25(11.5,1.5) M26(12.5,1.5) N1(-12.5,0.5) N2(-11.5,0.5) N3(-10.5,0.5) N4(-9.5,0.5) N5(-8.5,0.5) N6(-7.5,0.5) N7(-6.5,0.5) N8(-5.5,0.5) N9(-4.5,0.5) N10(-3.5,0.5) N11(-2.5,0.5) N12(-1.5,0.5) N13(-0.5,0.5) N14(0.5,0.5) N15(1.5,0.5) N16(2.5,0.5) N17(3.5,0.5) N18(4.5,0.5) N19(5.5,0.5) N20(6.5,0.5) N21(7.5,0.5) N22(8.5,0.5) N23(9.5,0.5) N24(10.5,0.5) N25(11.5,0.5) N26(12.5,0.5) P1(-12.5,-0.5) P2(-11.5,-0.5) P3(-10.5,-0.5) P4(-9.5,-0.5) P5(-8.5,-0.5) P6(-7.5,-0.5) P7(-6.5,-0.5) P8(-5.5,-0.5) P9(-4.5,-0.5) P10(-3.5,-0.5) P11(-2.5,-0.5) P12(-1.5,-0.5) P13(-0.5,-0.5) P14(0.5,-0.5) P15(1.5,-0.5) P16(2.5,-0.5) P17(3.5,-0.5) P18(4.5,-0.5) P19(5.5,-0.5) P20(6.5,-0.5) P21(7.5,-0.5) P22(8.5,-0.5) P23(9.5,-0.5) P24(10.5,-0.5) P25(11.5,-0.5) P26(12.5,-0.5) R1(-12.5,-1.5) R2(-11.5,-1.5) R3(-10.5,-1.5) R4(-9.5,-1.5) R5(-8.5,-1.5) R6(-7.5,-1.5) R7(-6.5,-1.5) R8(-5.5,-1.5) R9(-4.5,-1.5) R10(-3.5,-1.5) R11(-2.5,-1.5) R12(-1.5,-1.5) R13(-0.5,-1.5) R14(0.5,-1.5) R15(1.5,-1.5) R16(2.5,-1.5) R17(3.5,-1.5) R18(4.5,-1.5) R19(5.5,-1.5) R20(6.5,-1.5) R21(7.5,-1.5) R22(8.5,-1.5) R23(9.5,-1.5) R24(10.5,-1.5) R25(11.5,-1.5) R26(12.5,-1.5) T1(-12.5,-2.5) T2(-11.5,-2.5) T3(-10.5,-2.5) T4(-9.5,-2.5) T5(-8.5,-2.5) T6(-7.5,-2.5) T7(-6.5,-2.5) T8(-5.5,-2.5) T9(-4.5,-2.5) T10(-3.5,-2.5) T11(-2.5,-2.5) T12(-1.5,-2.5) T13(-0.5,-2.5) T14(0.5,-2.5) T15(1.5,-2.5) T16(2.5,-2.5) T17(3.5,-2.5) T18(4.5,-2.5) T19(5.5,-2.5) T20(6.5,-2.5) T21(7.5,-2.5) T22(8.5,-2.5) T23(9.5,-2.5) T24(10.5,-2.5) T25(11.5,-2.5) T26(12.5,-2.5) U1(-12.5,-3.5) U2(-11.5,-3.5) U3(-10.5,-3.5) U4(-9.5,-3.5) U5(-8.5,-3.5) U6(-7.5,-3.5) U7(-6.5,-3.5) U8(-5.5,-3.5) U9(-4.5,-3.5) U10(-3.5,-3.5) U11(-2.5,-3.5) U12(-1.5,-3.5) U13(-0.5,-3.5) U14(0.5,-3.5) U15(1.5,-3.5) U16(2.5,-3.5) U17(3.5,-3.5) U18(4.5,-3.5) U19(5.5,-3.5) U20(6.5,-3.5) U21(7.5,-3.5) U22(8.5,-3.5) U23(9.5,-3.5) U24(10.5,-3.5) U25(11.5,-3.5) U26(12.5,-3.5) V1(-12.5,-4.5) V2(-11.5,-4.5) V3(-10.5,-4.5) V4(-9.5,-4.5) V5(-8.5,-4.5) V6(-7.5,-4.5) V7(-6.5,-4.5) V8(-5.5,-4.5) V9(-4.5,-4.5) V10(-3.5,-4.5) V11(-2.5,-4.5) V12(-1.5,-4.5) V13(-0.5,-4.5) V14(0.5,-4.5) V15(1.5,-4.5) V16(2.5,-4.5) V17(3.5,-4.5) V18(4.5,-4.5) V19(5.5,-4.5) V20(6.5,-4.5) V21(7.5,-4.5) V22(8.5,-4.5) V23(9.5,-4.5) V24(10.5,-4.5) V25(11.5,-4.5) V26(12.5,-4.5) W1(-12.5,-5.5) W2(-11.5,-5.5) W3(-10.5,-5.5) W4(-9.5,-5.5) W5(-8.5,-5.5) W6(-7.5,-5.5) W7(-6.5,-5.5) W8(-5.5,-5.5) W9(-4.5,-5.5) W10(-3.5,-5.5) W11(-2.5,-5.5) W12(-1.5,-5.5) W13(-0.5,-5.5) W14(0.5,-5.5) W15(1.5,-5.5) W16(2.5,-5.5) W17(3.5,-5.5) W18(4.5,-5.5) W19(5.5,-5.5) W20(6.5,-5.5) W21(7.5,-5.5) W22(8.5,-5.5) W23(9.5,-5.5) W24(10.5,-5.5) W25(11.5,-5.5) W26(12.5,-5.5) Y1(-12.5,-6.5) Y2(-11.5,-6.5) Y3(-10.5,-6.5) Y4(-9.5,-6.5) Y5(-8.5,-6.5) Y6(-7.5,-6.5) Y7(-6.5,-6.5) Y8(-5.5,-6.5) Y9(-4.5,-6.5) Y10(-3.5,-6.5) Y11(-2.5,-6.5) Y12(-1.5,-6.5) Y13(-0.5,-6.5) Y14(0.5,-6.5) Y15(1.5,-6.5) Y16(2.5,-6.5) Y17(3.5,-6.5) Y18(4.5,-6.5) Y19(5.5,-6.5) Y20(6.5,-6.5) Y21(7.5,-6.5) Y22(8.5,-6.5) Y23(9.5,-6.5) Y24(10.5,-6.5) Y25(11.5,-6.5) Y26(12.5,-6.5)
Top Overlay:
  circle w0.25: c-14.05,12.5 r0.125
  lines w0.2: -13.5,12.2 -12.2,13.5 ; -13.5,12.4 -12.4,13.5 ; -13.5,12.6 -12.6,13.5 ; -13.5,13 -13,13.5 ; -13.5,13.2 -13.2,13.5 ; -13.5,13.5 -13.5,-13.5 13.5,-13.5 13.5,13.5 -13.5,13.5 ; -13.5,13.5 -12.8,13.5 -13.5,12.8 -13.5,13.5
Mechanical 1:
  lines w0.2: -13.5,12.2 -12.2,13.5 ; -13.5,12.4 -12.4,13.5 ; -13.5,12.6 -12.6,13.5 ; -13.5,13 -13,13.5 ; -13.5,13.2 -13.2,13.5 ; -13.5,13.5 -12.8,13.5 -13.5,12.8 -13.5,13.5 ; -13.5,13.5 -13.5,-13.5 13.5,-13.5 13.5,13.5 -13.5,13.5
  text "U10" at -9.621,14.1 h1
Mechanical 8:
  lines w0.1: -0.5,0 0.505,0 ; 0,-0.495 0,0.5 ; -14.5,-14.5 14.5,-14.5 14.5,14.5 -14.5,14.5 -14.5,-14.5

## BGA100P34X34-900 [mm]
pads (900):
  round 0.5 smd: A1(-16.51,16.51) A2(-15.5,16.5) A3(-14.5,16.5) A4(-13.5,16.5) A5(-12.5,16.5) A6(-11.5,16.5) A7(-10.5,16.5) A8(-9.5,16.5) A9(-8.5,16.5) A10(-7.5,16.5) A11(-6.5,16.5) A12(-5.5,16.5) A13(-4.5,16.5) A14(-3.5,16.5) A15(-2.5,16.5) A16(-1.5,16.5) A17(-0.5,16.5) A18(0.5,16.5) A19(1.5,16.5) A20(2.5,16.5) A21(3.5,16.5) A22(4.5,16.5) A23(5.5,16.5) A24(6.5,16.5) A25(7.5,16.5) A26(8.5,16.5) A27(9.5,16.5) A28(10.5,16.5) A29(11.5,16.5) A30(12.5,16.5) AA1(-16.5,-3.5) AA2(-15.5,-3.5) AA3(-14.5,-3.5) AA4(-13.5,-3.5) AA5(-12.5,-3.5) AA6(-11.5,-3.5) AA7(-10.5,-3.5) AA8(-9.5,-3.5) AA9(-8.5,-3.5) AA10(-7.5,-3.5) AA11(-6.5,-3.5) AA12(-5.5,-3.5) AA13(-4.5,-3.5) AA14(-3.5,-3.5) AA15(-2.5,-3.5) AA16(-1.5,-3.5) AA17(-0.5,-3.5) AA18(0.5,-3.5) AA19(1.5,-3.5) AA20(2.5,-3.5) AA21(3.5,-3.5) AA22(4.5,-3.5) AA23(5.5,-3.5) AA24(6.5,-3.5) AA25(7.5,-3.5) AA26(8.5,-3.5) AA27(9.5,-3.5) AA28(10.5,-3.5) AA29(11.5,-3.5) AA30(12.5,-3.5) AB1(-16.5,-4.5) AB2(-15.5,-4.5) AB3(-14.5,-4.5) AB4(-13.5,-4.5) AB5(-12.5,-4.5) AB6(-11.5,-4.5) AB7(-10.5,-4.5) AB8(-9.5,-4.5) AB9(-8.5,-4.5) AB10(-7.5,-4.5) AB11(-6.5,-4.5) AB12(-5.5,-4.5) AB13(-4.5,-4.5) AB14(-3.5,-4.5) AB15(-2.5,-4.5) AB16(-1.5,-4.5) AB17(-0.5,-4.5) AB18(0.5,-4.5) AB19(1.5,-4.5) AB20(2.5,-4.5) AB21(3.5,-4.5) AB22(4.5,-4.5) AB23(5.5,-4.5) AB24(6.5,-4.5) AB25(7.5,-4.5) AB26(8.5,-4.5) AB27(9.5,-4.5) AB28(10.5,-4.5) AB29(11.5,-4.5) AB30(12.5,-4.5) AC1(-16.5,-5.5) AC2(-15.5,-5.5) AC3(-14.5,-5.5) AC4(-13.5,-5.5) AC5(-12.5,-5.5) AC6(-11.5,-5.5) AC7(-10.5,-5.5) AC8(-9.5,-5.5) AC9(-8.5,-5.5) AC10(-7.5,-5.5) AC11(-6.5,-5.5) AC12(-5.5,-5.5) AC13(-4.5,-5.5) AC14(-3.5,-5.5) AC15(-2.5,-5.5) AC16(-1.5,-5.5) AC17(-0.5,-5.5) AC18(0.5,-5.5) AC19(1.5,-5.5) AC20(2.5,-5.5) AC21(3.5,-5.5) AC22(4.5,-5.5) AC23(5.5,-5.5) AC24(6.5,-5.5) AC25(7.5,-5.5) AC26(8.5,-5.5) AC27(9.5,-5.5) AC28(10.5,-5.5) AC29(11.5,-5.5) AC30(12.5,-5.5) AD1(-16.5,-6.5) AD2(-15.5,-6.5) AD3(-14.5,-6.5) AD4(-13.5,-6.5) AD5(-12.5,-6.5) AD6(-11.5,-6.5) AD7(-10.5,-6.5) AD8(-9.5,-6.5) AD9(-8.5,-6.5) AD10(-7.5,-6.5) AD11(-6.5,-6.5) AD12(-5.5,-6.5) AD13(-4.5,-6.5) AD14(-3.5,-6.5) AD15(-2.5,-6.5) AD16(-1.5,-6.5) AD17(-0.5,-6.5) AD18(0.5,-6.5) AD19(1.5,-6.5) AD20(2.5,-6.5) AD21(3.5,-6.5) AD22(4.5,-6.5) AD23(5.5,-6.5) AD24(6.5,-6.5) AD25(7.5,-6.5) AD26(8.5,-6.5) AD27(9.5,-6.5) AD28(10.5,-6.5) AD29(11.5,-6.5) AD30(12.5,-6.5) AE1(-16.5,-7.5) AE2(-15.5,-7.5) AE3(-14.5,-7.5) AE4(-13.5,-7.5) AE5(-12.5,-7.5) AE6(-11.5,-7.5) AE7(-10.5,-7.5) AE8(-9.5,-7.5) AE9(-8.5,-7.5) AE10(-7.5,-7.5) AE11(-6.5,-7.5) AE12(-5.5,-7.5) AE13(-4.5,-7.5) AE14(-3.5,-7.5) AE15(-2.5,-7.5) AE16(-1.5,-7.5) AE17(-0.5,-7.5) AE18(0.5,-7.5) AE19(1.5,-7.5) AE20(2.5,-7.5) AE21(3.5,-7.5) AE22(4.5,-7.5) AE23(5.5,-7.5) AE24(6.5,-7.5) AE25(7.5,-7.5) AE26(8.5,-7.5) AE27(9.5,-7.5) AE28(10.5,-7.5) AE29(11.5,-7.5) AE30(12.5,-7.5) AF1(-16.5,-8.5) AF2(-15.5,-8.5) AF3(-14.5,-8.5) AF4(-13.5,-8.5) AF5(-12.5,-8.5) AF6(-11.5,-8.5) AF7(-10.5,-8.5) AF8(-9.5,-8.5) AF9(-8.5,-8.5) AF10(-7.5,-8.5) AF11(-6.5,-8.5) AF12(-5.5,-8.5) AF13(-4.5,-8.5) AF14(-3.5,-8.5) AF15(-2.5,-8.5) AF16(-1.5,-8.5) AF17(-0.5,-8.5) AF18(0.5,-8.5) AF19(1.5,-8.5) AF20(2.5,-8.5) AF21(3.5,-8.5) AF22(4.5,-8.5) AF23(5.5,-8.5) AF24(6.5,-8.5) AF25(7.5,-8.5) AF26(8.5,-8.5) AF27(9.5,-8.5) AF28(10.5,-8.5) AF29(11.5,-8.5) AF30(12.5,-8.5) AG1(-16.5,-9.5) AG2(-15.5,-9.5) AG3(-14.5,-9.5) AG4(-13.5,-9.5) AG5(-12.5,-9.5) AG6(-11.5,-9.5) AG7(-10.5,-9.5) AG8(-9.5,-9.5) AG9(-8.5,-9.5) AG10(-7.5,-9.5) AG11(-6.5,-9.5) AG12(-5.5,-9.5) AG13(-4.5,-9.5) AG14(-3.5,-9.5) AG15(-2.5,-9.5) AG16(-1.5,-9.5) AG17(-0.5,-9.5) AG18(0.5,-9.5) AG19(1.5,-9.5) AG20(2.5,-9.5) AG21(3.5,-9.5) AG22(4.5,-9.5) AG23(5.5,-9.5) AG24(6.5,-9.5) AG25(7.5,-9.5) AG26(8.5,-9.5) AG27(9.5,-9.5) AG28(10.5,-9.5) AG29(11.5,-9.5) AG30(12.5,-9.5) AH1(-16.5,-10.5) AH2(-15.5,-10.5) AH3(-14.5,-10.5) AH4(-13.5,-10.5) AH5(-12.5,-10.5) AH6(-11.5,-10.5) AH7(-10.5,-10.5) AH8(-9.5,-10.5) AH9(-8.5,-10.5) AH10(-7.5,-10.5) AH11(-6.5,-10.5) AH12(-5.5,-10.5) AH13(-4.5,-10.5) AH14(-3.5,-10.5) AH15(-2.5,-10.5) AH16(-1.5,-10.5) AH17(-0.5,-10.5) AH18(0.5,-10.5) AH19(1.5,-10.5) AH20(2.5,-10.5) AH21(3.5,-10.5) AH22(4.5,-10.5) AH23(5.5,-10.5) AH24(6.5,-10.5) AH25(7.5,-10.5) AH26(8.5,-10.5) AH27(9.5,-10.5) AH28(10.5,-10.5) AH29(11.5,-10.5) AH30(12.5,-10.5) AJ1(-16.5,-11.5) AJ2(-15.5,-11.5) AJ3(-14.5,-11.5) AJ4(-13.5,-11.5) AJ5(-12.5,-11.5) AJ6(-11.5,-11.5) AJ7(-10.5,-11.5) AJ8(-9.5,-11.5) AJ9(-8.5,-11.5) AJ10(-7.5,-11.5) AJ11(-6.5,-11.5) AJ12(-5.5,-11.5) AJ13(-4.5,-11.5) AJ14(-3.5,-11.5) AJ15(-2.5,-11.5) AJ16(-1.5,-11.5) AJ17(-0.5,-11.5) AJ18(0.5,-11.5) AJ19(1.5,-11.5) AJ20(2.5,-11.5) AJ21(3.5,-11.5) AJ22(4.5,-11.5) AJ23(5.5,-11.5) AJ24(6.5,-11.5) AJ25(7.5,-11.5) AJ26(8.5,-11.5) AJ27(9.5,-11.5) AJ28(10.5,-11.5) AJ29(11.5,-11.5) AJ30(12.5,-11.5) AK1(-16.5,-12.5) AK2(-15.5,-12.5) AK3(-14.5,-12.5) AK4(-13.5,-12.5) AK5(-12.5,-12.5) AK6(-11.5,-12.5) AK7(-10.5,-12.5) AK8(-9.5,-12.5) AK9(-8.5,-12.5) AK10(-7.5,-12.5) AK11(-6.5,-12.5) AK12(-5.5,-12.5) AK13(-4.5,-12.5) AK14(-3.5,-12.5) AK15(-2.5,-12.5) AK16(-1.5,-12.5) AK17(-0.5,-12.5) AK18(0.5,-12.5) AK19(1.5,-12.5) AK20(2.5,-12.5) AK21(3.5,-12.5) AK22(4.5,-12.5) AK23(5.5,-12.5) AK24(6.5,-12.5) AK25(7.5,-12.5) AK26(8.5,-12.5) AK27(9.5,-12.5) AK28(10.5,-12.5) AK29(11.5,-12.5) AK30(12.5,-12.5) B1(-16.5,15.5) B2(-15.5,15.5) B3(-14.5,15.5) B4(-13.5,15.5) B5(-12.5,15.5) B6(-11.5,15.5) B7(-10.5,15.5) B8(-9.5,15.5) B9(-8.5,15.5) B10(-7.5,15.5) B11(-6.5,15.5) B12(-5.5,15.5) B13(-4.5,15.5) B14(-3.5,15.5) B15(-2.5,15.5) B16(-1.5,15.5) B17(-0.5,15.5) B18(0.5,15.5) B19(1.5,15.5) B20(2.5,15.5) B21(3.5,15.5) B22(4.5,15.5) B23(5.5,15.5) B24(6.5,15.5) B25(7.5,15.5) B26(8.5,15.5) B27(9.5,15.5) B28(10.5,15.5) B29(11.5,15.5) B30(12.5,15.5) C1(-16.5,14.5) C2(-15.5,14.5) C3(-14.5,14.5) C4(-13.5,14.5) C5(-12.5,14.5) C6(-11.5,14.5) C7(-10.5,14.5) C8(-9.5,14.5) C9(-8.5,14.5) C10(-7.5,14.5) C11(-6.5,14.5) C12(-5.5,14.5) C13(-4.5,14.5) C14(-3.5,14.5) C15(-2.5,14.5) C16(-1.5,14.5) C17(-0.5,14.5) C18(0.5,14.5) C19(1.5,14.5) C20(2.5,14.5) C21(3.5,14.5) C22(4.5,14.5) C23(5.5,14.5) C24(6.5,14.5) C25(7.5,14.5) C26(8.5,14.5) C27(9.5,14.5) C28(10.5,14.5) C29(11.5,14.5) C30(12.5,14.5) D1(-16.5,13.5) D2(-15.5,13.5) D3(-14.5,13.5) D4(-13.5,13.5) D5(-12.5,13.5) D6(-11.5,13.5) D7(-10.5,13.5) D8(-9.5,13.5) D9(-8.5,13.5) D10(-7.5,13.5) D11(-6.5,13.5) D12(-5.5,13.5) D13(-4.5,13.5) D14(-3.5,13.5) D15(-2.5,13.5) D16(-1.5,13.5) D17(-0.5,13.5) D18(0.5,13.5) D19(1.5,13.5) D20(2.5,13.5) D21(3.5,13.5) D22(4.5,13.5) D23(5.5,13.5) D24(6.5,13.5) D25(7.5,13.5) D26(8.5,13.5) D27(9.5,13.5) D28(10.5,13.5) D29(11.5,13.5) D30(12.5,13.5) E1(-16.5,12.5) E2(-15.5,12.5) E3(-14.5,12.5) E4(-13.5,12.5) E5(-12.5,12.5) E6(-11.5,12.5) E7(-10.5,12.5) E8(-9.5,12.5) E9(-8.5,12.5) E10(-7.5,12.5) E11(-6.5,12.5) E12(-5.5,12.5) E13(-4.5,12.5) E14(-3.5,12.5) E15(-2.5,12.5) E16(-1.5,12.5) E17(-0.5,12.5) E18(0.5,12.5) E19(1.5,12.5) E20(2.5,12.5) E21(3.5,12.5) E22(4.5,12.5) E23(5.5,12.5) E24(6.5,12.5) E25(7.5,12.5) E26(8.5,12.5) E27(9.5,12.5) E28(10.5,12.5) E29(11.5,12.5) E30(12.5,12.5) F1(-16.5,11.5) F2(-15.5,11.5) F3(-14.5,11.5) F4(-13.5,11.5) F5(-12.5,11.5) F6(-11.5,11.5) F7(-10.5,11.5) F8(-9.5,11.5) F9(-8.5,11.5) F10(-7.5,11.5) F11(-6.5,11.5) F12(-5.5,11.5) F13(-4.5,11.5) F14(-3.5,11.5) F15(-2.5,11.5) F16(-1.5,11.5) F17(-0.5,11.5) F18(0.5,11.5) F19(1.5,11.5) F20(2.5,11.5) F21(3.5,11.5) F22(4.5,11.5) F23(5.5,11.5) F24(6.5,11.5) F25(7.5,11.5) F26(8.5,11.5) F27(9.5,11.5) F28(10.5,11.5) F29(11.5,11.5) F30(12.5,11.5) G1(-16.5,10.5) G2(-15.5,10.5) G3(-14.5,10.5) G4(-13.5,10.5) G5(-12.5,10.5) G6(-11.5,10.5) G7(-10.5,10.5) G8(-9.5,10.5) G9(-8.5,10.5) G10(-7.5,10.5) G11(-6.5,10.5) G12(-5.5,10.5) G13(-4.5,10.5) G14(-3.5,10.5) G15(-2.5,10.5) G16(-1.5,10.5) G17(-0.5,10.5) G18(0.5,10.5) G19(1.5,10.5) G20(2.5,10.5) G21(3.5,10.5) G22(4.5,10.5) G23(5.5,10.5) G24(6.5,10.5) G25(7.5,10.5) G26(8.5,10.5) G27(9.5,10.5) G28(10.5,10.5) G29(11.5,10.5) G30(12.5,10.5) H1(-16.5,9.5) H2(-15.5,9.5) H3(-14.5,9.5) H4(-13.5,9.5) H5(-12.5,9.5) H6(-11.5,9.5) H7(-10.5,9.5) H8(-9.5,9.5) H9(-8.5,9.5) H10(-7.5,9.5) H11(-6.5,9.5) H12(-5.5,9.5) H13(-4.5,9.5) H14(-3.5,9.5) H15(-2.5,9.5) H16(-1.5,9.5) H17(-0.5,9.5) H18(0.5,9.5) H19(1.5,9.5) H20(2.5,9.5) H21(3.5,9.5) H22(4.5,9.5) H23(5.5,9.5) H24(6.5,9.5) H25(7.5,9.5) H26(8.5,9.5) H27(9.5,9.5) H28(10.5,9.5) H29(11.5,9.5) H30(12.5,9.5) J1(-16.5,8.5) J2(-15.5,8.5) J3(-14.5,8.5) J4(-13.5,8.5) J5(-12.5,8.5) J6(-11.5,8.5) J7(-10.5,8.5) J8(-9.5,8.5) J9(-8.5,8.5) J10(-7.5,8.5) J11(-6.5,8.5) J12(-5.5,8.5) J13(-4.5,8.5) J14(-3.5,8.5) J15(-2.5,8.5) J16(-1.5,8.5) J17(-0.5,8.5) J18(0.5,8.5) J19(1.5,8.5) J20(2.5,8.5) J21(3.5,8.5) J22(4.5,8.5) J23(5.5,8.5) J24(6.5,8.5) J25(7.5,8.5) J26(8.5,8.5) J27(9.5,8.5) J28(10.5,8.5) J29(11.5,8.5) J30(12.5,8.5) K1(-16.5,7.5) K2(-15.5,7.5) K3(-14.5,7.5) K4(-13.5,7.5) K5(-12.5,7.5) K6(-11.5,7.5) K7(-10.5,7.5) K8(-9.5,7.5) K9(-8.5,7.5) K10(-7.5,7.5) K11(-6.5,7.5) K12(-5.5,7.5) K13(-4.5,7.5) K14(-3.5,7.5) K15(-2.5,7.5) K16(-1.5,7.5) K17(-0.5,7.5) K18(0.5,7.5) K19(1.5,7.5) K20(2.5,7.5) K21(3.5,7.5) K22(4.5,7.5) K23(5.5,7.5) K24(6.5,7.5) K25(7.5,7.5) K26(8.5,7.5) K27(9.5,7.5) K28(10.5,7.5) K29(11.5,7.5) K30(12.5,7.5) L1(-16.5,6.5) L2(-15.5,6.5) L3(-14.5,6.5) L4(-13.5,6.5) L5(-12.5,6.5) L6(-11.5,6.5) L7(-10.5,6.5) L8(-9.5,6.5) L9(-8.5,6.5) L10(-7.5,6.5) L11(-6.5,6.5) L12(-5.5,6.5) L13(-4.5,6.5) L14(-3.5,6.5) L15(-2.5,6.5) L16(-1.5,6.5) L17(-0.5,6.5) L18(0.5,6.5) L19(1.5,6.5) L20(2.5,6.5) L21(3.5,6.5) L22(4.5,6.5) L23(5.5,6.5) L24(6.5,6.5) L25(7.5,6.5) L26(8.5,6.5) L27(9.5,6.5) L28(10.5,6.5) L29(11.5,6.5) L30(12.5,6.5) M1(-16.5,5.5) M2(-15.5,5.5) M3(-14.5,5.5) M4(-13.5,5.5) M5(-12.5,5.5) M6(-11.5,5.5) M7(-10.5,5.5) M8(-9.5,5.5) M9(-8.5,5.5) M10(-7.5,5.5) M11(-6.5,5.5) M12(-5.5,5.5) M13(-4.5,5.5) M14(-3.5,5.5) M15(-2.5,5.5) M16(-1.5,5.5) M17(-0.5,5.5) M18(0.5,5.5) M19(1.5,5.5) M20(2.5,5.5) M21(3.5,5.5) M22(4.5,5.5) M23(5.5,5.5) M24(6.5,5.5) M25(7.5,5.5) M26(8.5,5.5) M27(9.5,5.5) M28(10.5,5.5) M29(11.5,5.5) M30(12.5,5.5) N1(-16.5,4.5) N2(-15.5,4.5) N3(-14.5,4.5) N4(-13.5,4.5) N5(-12.5,4.5) N6(-11.5,4.5) N7(-10.5,4.5) N8(-9.5,4.5) N9(-8.5,4.5) N10(-7.5,4.5) N11(-6.5,4.5) N12(-5.5,4.5) N13(-4.5,4.5) N14(-3.5,4.5) N15(-2.5,4.5) N16(-1.5,4.5) N17(-0.5,4.5) N18(0.5,4.5) N19(1.5,4.5) N20(2.5,4.5) N21(3.5,4.5) N22(4.5,4.5) N23(5.5,4.5) N24(6.5,4.5) N25(7.5,4.5) N26(8.5,4.5) N27(9.5,4.5) N28(10.5,4.5) N29(11.5,4.5) N30(12.5,4.5) P1(-16.5,3.5) P2(-15.5,3.5) P3(-14.5,3.5) P4(-13.5,3.5) P5(-12.5,3.5) P6(-11.5,3.5) P7(-10.5,3.5) P8(-9.5,3.5) P9(-8.5,3.5) P10(-7.5,3.5) P11(-6.5,3.5) P12(-5.5,3.5) P13(-4.5,3.5) P14(-3.5,3.5) P15(-2.5,3.5) P16(-1.5,3.5) P17(-0.5,3.5) P18(0.5,3.5) P19(1.5,3.5) P20(2.5,3.5) P21(3.5,3.5) P22(4.5,3.5) P23(5.5,3.5) P24(6.5,3.5) P25(7.5,3.5) P26(8.5,3.5) P27(9.5,3.5) P28(10.5,3.5) P29(11.5,3.5) P30(12.5,3.5) R1(-16.5,2.5) R2(-15.5,2.5) R3(-14.5,2.5) R4(-13.5,2.5) R5(-12.5,2.5) R6(-11.5,2.5) R7(-10.5,2.5) R8(-9.5,2.5) R9(-8.5,2.5) R10(-7.5,2.5) R11(-6.5,2.5) R12(-5.5,2.5) R13(-4.5,2.5) R14(-3.5,2.5) R15(-2.5,2.5) R16(-1.5,2.5) R17(-0.5,2.5) R18(0.5,2.5) R19(1.5,2.5) R20(2.5,2.5) R21(3.5,2.5) R22(4.5,2.5) R23(5.5,2.5) R24(6.5,2.5) R25(7.5,2.5) R26(8.5,2.5) R27(9.5,2.5) R28(10.5,2.5) R29(11.5,2.5) R30(12.5,2.5) T1(-16.5,1.5) T2(-15.5,1.5) T3(-14.5,1.5) T4(-13.5,1.5) T5(-12.5,1.5) T6(-11.5,1.5) T7(-10.5,1.5) T8(-9.5,1.5) T9(-8.5,1.5) T10(-7.5,1.5) T11(-6.5,1.5) T12(-5.5,1.5) T13(-4.5,1.5) T14(-3.5,1.5) T15(-2.5,1.5) T16(-1.5,1.5) T17(-0.5,1.5) T18(0.5,1.5) T19(1.5,1.5) T20(2.5,1.5) T21(3.5,1.5) T22(4.5,1.5) T23(5.5,1.5) T24(6.5,1.5) T25(7.5,1.5) T26(8.5,1.5) T27(9.5,1.5) T28(10.5,1.5) T29(11.5,1.5) T30(12.5,1.5) U1(-16.5,0.5) U2(-15.5,0.5) U3(-14.5,0.5) U4(-13.5,0.5) U5(-12.5,0.5) U6(-11.5,0.5) U7(-10.5,0.5) U8(-9.5,0.5) U9(-8.5,0.5) U10(-7.5,0.5) U11(-6.5,0.5) U12(-5.5,0.5) U13(-4.5,0.5) U14(-3.5,0.5) U15(-2.5,0.5) U16(-1.5,0.5) U17(-0.5,0.5) U18(0.5,0.5) U19(1.5,0.5) U20(2.5,0.5) U21(3.5,0.5) U22(4.5,0.5) U23(5.5,0.5) U24(6.5,0.5) U25(7.5,0.5) U26(8.5,0.5) U27(9.5,0.5) U28(10.5,0.5) U29(11.5,0.5) U30(12.5,0.5) V1(-16.5,-0.5) V2(-15.5,-0.5) V3(-14.5,-0.5) V4(-13.5,-0.5) V5(-12.5,-0.5) V6(-11.5,-0.5) V7(-10.5,-0.5) V8(-9.5,-0.5) V9(-8.5,-0.5) V10(-7.5,-0.5) V11(-6.5,-0.5) V12(-5.5,-0.5) V13(-4.5,-0.5) V14(-3.5,-0.5) V15(-2.5,-0.5) V16(-1.5,-0.5) V17(-0.5,-0.5) V18(0.5,-0.5) V19(1.5,-0.5) V20(2.5,-0.5) V21(3.5,-0.5) V22(4.5,-0.5) V23(5.5,-0.5) V24(6.5,-0.5) V25(7.5,-0.5) V26(8.5,-0.5) V27(9.5,-0.5) V28(10.5,-0.5) V29(11.5,-0.5) V30(12.5,-0.5) W1(-16.5,-1.5) W2(-15.5,-1.5) W3(-14.5,-1.5) W4(-13.5,-1.5) W5(-12.5,-1.5) W6(-11.5,-1.5) W7(-10.5,-1.5) W8(-9.5,-1.5) W9(-8.5,-1.5) W10(-7.5,-1.5) W11(-6.5,-1.5) W12(-5.5,-1.5) W13(-4.5,-1.5) W14(-3.5,-1.5) W15(-2.5,-1.5) W16(-1.5,-1.5) W17(-0.5,-1.5) W18(0.5,-1.5) W19(1.5,-1.5) W20(2.5,-1.5) W21(3.5,-1.5) W22(4.5,-1.5) W23(5.5,-1.5) W24(6.5,-1.5) W25(7.5,-1.5) W26(8.5,-1.5) W27(9.5,-1.5) W28(10.5,-1.5) W29(11.5,-1.5) W30(12.5,-1.5) Y1(-16.5,-2.5) Y2(-15.5,-2.5) Y3(-14.5,-2.5) Y4(-13.5,-2.5) Y5(-12.5,-2.5) Y6(-11.5,-2.5) Y7(-10.5,-2.5) Y8(-9.5,-2.5) Y9(-8.5,-2.5) Y10(-7.5,-2.5) Y11(-6.5,-2.5) Y12(-5.5,-2.5) Y13(-4.5,-2.5) Y14(-3.5,-2.5) Y15(-2.5,-2.5) Y16(-1.5,-2.5) Y17(-0.5,-2.5) Y18(0.5,-2.5) Y19(1.5,-2.5) Y20(2.5,-2.5) Y21(3.5,-2.5) Y22(4.5,-2.5) Y23(5.5,-2.5) Y24(6.5,-2.5) Y25(7.5,-2.5) Y26(8.5,-2.5) Y27(9.5,-2.5) Y28(10.5,-2.5) Y29(11.5,-2.5) Y30(12.5,-2.5)
Top Overlay:
  circle w0.25: c-18.05,16.5 r0.125
  lines w0.2: -17.5,-13.492 13.462,-13.492 ; -17.5,-13.462 -17.5,17.5 13.462,17.5 ; -17.5,16.3 -16.3,17.5 ; -17.5,16.5 -16.5,17.5 ; -17.5,16.7 -16.7,17.5 ; -17.5,16.9 -16.9,17.5 ; -17.5,17.1 -17.1,17.5 ; -17.5,17.3 -17.3,17.5 ; 13.492,-13.462 13.492,17.5
Mechanical 1:
  lines w0.2: -17.5,-13.492 13.462,-13.492 ; -17.5,-13.462 -17.5,17.5 13.492,17.5 13.492,-13.492 ; -17.5,16.3 -16.3,17.5 ; -17.5,16.5 -16.5,17.5 ; -17.5,16.7 -16.7,17.5 ; -17.5,16.9 -16.9,17.5 ; -17.5,17.1 -17.1,17.5 ; -17.5,17.3 -17.3,17.5
  text "U100" at -3.616,7.9 h1
Mechanical 8:
  lines w0.1: -2.5,2 -1.5,2 ; -2,1.5 -2,2.5 ; -18.5,-14.224 14.605,-14.224 14.605,18.5 -18.5,18.5 -18.5,-14.224

## CAP1210 [mil]
pads (2):
  rect 60x100 smd: 1(-67.5,0) 2(67.5,0)
Top Overlay:
  lines w10: -43.21,65.95 -99.06,65.95 -119.34,45.67 -119.34,-43.09 -97.9,-64.53 -39.23,-64.53 -39.23,-65.03 ; 37.5,-70 118,-70 118,70 37.5,70

## CONCPCIJ1 [mil]
pads (150):
  round 40 hole 26: A1(0,0) A2(0,78.74) A3(0,157.48) A4(0,236.22) A5(0,314.96) A6(0,393.7) A7(0,472.44) A8(0,551.18) A9(0,629.92) A10(0,708.66) A11(0,787.4) A15(0,1102.36) A16(0,1181.1) A17(0,1259.84) A18(0,1338.58) A19(0,1417.32) A20(0,1496.06) A21(0,1574.8) A22(0,1653.54) A23(0,1732.28) A24(0,1811.02) A25(0,1889.76) B1(-78.74,0) B2(-78.74,78.74) B3(-78.74,157.48) B4(-78.74,236.22) B5(-78.74,314.96) B6(-78.74,393.7) B7(-78.74,472.44) B8(-78.74,551.18) B9(-78.74,629.92) B10(-78.74,708.66) B11(-78.74,787.4) B15(-78.74,1102.36) B16(-78.74,1181.1) B17(-78.74,1259.84) B18(-78.74,1338.58) B19(-78.74,1417.32) B20(-78.74,1496.06) B21(-78.74,1574.8) B22(-78.74,1653.54) B23(-78.74,1732.28) B24(-78.74,1811.02) B25(-78.74,1889.76) C1(-157.48,0) C2(-157.48,78.74) C3(-157.48,157.48) C4(-157.48,236.22) C5(-157.48,314.96) C6(-157.48,393.7) C7(-157.48,472.44) C8(-157.48,551.18) C9(-157.48,629.92) C10(-157.48,708.66) C11(-157.48,787.4) C15(-157.48,1102.36) C16(-157.48,1181.1) C17(-157.48,1259.84) C18(-157.48,1338.58) C19(-157.48,1417.32) C20(-157.48,1496.06) C21(-157.48,1574.8) C22(-157.48,1653.54) C23(-157.48,1732.28) C24(-157.48,1811.02) C25(-157.48,1889.76) D1(-236.22,0) D2(-236.22,78.74) D3(-236.22,157.48) D4(-236.22,236.22) D5(-236.22,314.96) D6(-236.22,393.7) D7(-236.22,472.44) D8(-236.22,551.18) D9(-236.22,629.92) D10(-236.22,708.66) D11(-236.22,787.4) D15(-236.22,1102.36) D16(-236.22,1181.1) D17(-236.22,1259.84) D18(-236.22,1338.58) D19(-236.22,1417.32) D20(-236.22,1496.06) D21(-236.22,1574.8) D22(-236.22,1653.54) D23(-236.22,1732.28) D24(-236.22,1811.02) D25(-236.22,1889.76) E1(-314.96,0) E2(-314.96,78.74) E3(-314.96,157.48) E4(-314.96,236.22) E5(-314.96,314.96) E6(-314.96,393.7) E7(-314.96,472.44) E8(-314.96,551.18) E9(-314.96,629.92) E10(-314.96,708.66) E11(-314.96,787.4) E15(-314.96,1102.36) E16(-314.96,1181.1) E17(-314.96,1259.84) E18(-314.96,1338.58) E19(-314.96,1417.32) E20(-314.96,1496.06) E21(-314.96,1574.8) E22(-314.96,1653.54) E23(-314.96,1732.28) E24(-314.96,1811.02) E25(-314.96,1889.76) F1(-393.7,0) F2(-393.7,78.74) F3(-393.7,157.48) F4(-393.7,236.22) F5(-393.7,314.96) F6(-393.7,393.7) F7(-393.7,472.44) F8(-393.7,551.18) F9(-393.7,629.92) F10(-393.7,708.66) F11(-393.7,787.4) F12(-393.7,866.14) F13(-393.7,944.88) F14(-393.7,1023.62) F15(-393.7,1102.36) F16(-393.7,1181.1) F17(-393.7,1259.84) F18(-393.7,1338.58) F19(-393.7,1417.32) F20(-393.7,1496.06) F21(-393.7,1574.8) F22(-393.7,1653.54) F23(-393.7,1732.28) F24(-393.7,1811.02) F25(-393.7,1889.76)
  round 0 all layers, no hole: A12(0,866.14) A13(0,944.88) A14(0,1023.62) B12(-78.74,866.14) B14(-78.74,1023.62) C12(-157.48,866.14) C13(-157.48,944.88) C14(-157.48,1023.62) D12(-236.22,866.14) D13(-236.22,944.88) D14(-236.22,1023.62) E12(-314.96,866.14) E14(-314.96,1023.62)
  round 40 / inner round 45 / far side round 40 hole 40: B13(-78.74,944.88) E13(-314.96,944.88)
Top Overlay:
  lines w10: 39.37,-39.37 433.07,-39.37 433.07,1929.13 39.37,1929.13

## CONCPCIJ1-B [mil]
pads (138):
  round 40 hole 26: 1(0,0) 2(0,78.74) 3(0,157.48) 4(0,236.22) 5(0,314.96) 6(0,393.7) 7(0,472.44) 8(0,551.18) 9(0,629.92) 10(0,708.66) 11(0,787.4) 15(0,1102.36) 16(0,1181.1) 17(0,1259.84) 18(0,1338.58) 19(0,1417.32) 20(0,1496.06) 21(0,1574.8) 22(0,1653.54) 23(0,1732.28) 24(0,1811.02) 25(0,1889.76) 26(-78.74,0) 27(-78.74,78.74) 28(-78.74,157.48) 29(-78.74,236.22) 30(-78.74,314.96) 31(-78.74,393.7) 32(-78.74,472.44) 33(-78.74,551.18) 34(-78.74,629.92) 35(-78.74,708.66) 36(-78.74,787.4) 40(-78.74,1102.36) 41(-78.74,1181.1) 42(-78.74,1259.84) 43(-78.74,1338.58) 44(-78.74,1417.32) 45(-78.74,1496.06) 46(-78.74,1574.8) 47(-78.74,1653.54) 48(-78.74,1732.28) 49(-78.74,1811.02) 50(-78.74,1889.76) 51(-157.48,0) 52(-157.48,78.74) 53(-157.48,157.48) 54(-157.48,236.22) 55(-157.48,314.96) 56(-157.48,393.7) 57(-157.48,472.44) 58(-157.48,551.18) 59(-157.48,629.92) 60(-157.48,708.66) 61(-157.48,787.4) 65(-157.48,1102.36) 66(-157.48,1181.1) 67(-157.48,1259.84) 68(-157.48,1338.58) 69(-157.48,1417.32) 70(-157.48,1496.06) 71(-157.48,1574.8) 72(-157.48,1653.54) 73(-157.48,1732.28) 74(-157.48,1811.02) 75(-157.48,1889.76) 76(-236.22,0) 77(-236.22,78.74) 78(-236.22,157.48) 79(-236.22,236.22) 80(-236.22,314.96) 81(-236.22,393.7) 82(-236.22,472.44) 83(-236.22,551.18) 84(-236.22,629.92) 85(-236.22,708.66) 86(-236.22,787.4) 90(-236.22,1102.36) 91(-236.22,1181.1) 92(-236.22,1259.84) 93(-236.22,1338.58) 94(-236.22,1417.32) 95(-236.22,1496.06) 96(-236.22,1574.8) 97(-236.22,1653.54) 98(-236.22,1732.28) 99(-236.22,1811.02) 100(-236.22,1889.76) 101(-314.96,0) 102(-314.96,78.74) 103(-314.96,157.48) 104(-314.96,236.22) 105(-314.96,314.96) 106(-314.96,393.7) 107(-314.96,472.44) 108(-314.96,551.18) 109(-314.96,629.92) 110(-314.96,708.66) 111(-314.96,787.4) 115(-314.96,1102.36) 116(-314.96,1181.1) 117(-314.96,1259.84) 118(-314.96,1338.58) 119(-314.96,1417.32) 120(-314.96,1496.06) 121(-314.96,1574.8) 122(-314.96,1653.54) 123(-314.96,1732.28) 124(-314.96,1811.02) 125(-314.96,1889.76) 126(-393.7,0) 127(-393.7,157.48) 128(-393.7,314.96) 129(-393.7,472.44) 130(-393.7,629.92) 131(-393.7,787.4) 132(-393.7,944.88) 133(-393.7,1102.36) 134(-393.7,1259.84) 135(-393.7,1417.32) 136(-393.7,1574.8) 137(-393.7,1732.28) 138(-393.7,1889.76)
  round 0 all layers, no hole: 12(0,866.14) 13(0,944.88) 14(0,1023.62) 37(-78.74,866.14) 39(-78.74,1023.62) 62(-157.48,866.14) 63(-157.48,944.88) 64(-157.48,1023.62) 87(-236.22,866.14) 88(-236.22,944.88) 89(-236.22,1023.62) 112(-314.96,866.14) 114(-314.96,1023.62)
  round 40 / inner round 45 / far side round 40 hole 40: 38(-78.74,944.88) 113(-314.96,944.88)
Top Overlay:
  lines w10: 39.37,-39.37 433.07,-39.37 433.07,1929.13 39.37,1929.13